# Altium schematic symbol library Crys_CTS_ATS16B_eec.SchLib: 1 symbol
Pins are listed as number, name and electrical type; pins without a type are passive.

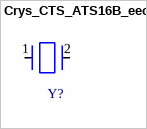
[diagram p0: symbol Crys_CTS_ATS16B_eec]

## Crys_CTS_ATS16B_eec
designator Y?
CRYSTAL 16.0000MHZ 18PF T/H; Part Number: ATS16B; Manufacturer: CTS; Resistance: 40Ω; Capacitance: 18.0pF; Value: 18.0pF; Frequency Tolerance: ±30ppm; Frequency Stability: ±50ppm; Frequency: 16MHz; helpURL: https://upverter.com/upn/revision/339e0baabf11f92b/; ComponentLink2Description: Datasheet; Temperature: -20°C to +70°C; Package: PTH_XTAL_10MM85_4MM5; Supplier 2: Mouser; Price: 0.245333334185; Supplier 1: Digi-Key; ComponentLink1URL: https://upverter.com/upn/revision/339e0baabf11f92b/; Supplier Part Number 2: 774-ATS16B; Supplier Part Number 1: CTX1085-ND; ComponentLink1Description: Upverter; ComponentLink2URL: https://upverter.com/datasheet/1e3504e19249f7256f0c1479324b6da4eb869fd1.pdf; RoHS: TRUE; Mouser Part Number: 774-ATS16B; Ipc Land Pattern Name: CAPAD488W65L1085D450; Temperature Range High: +70°C; Temperature Range Low: -20°C; Digikey Part Number: CTX1085-ND; ESR: 40Ω; Lead Free: yes; Digikey Description: CRYSTAL 16.0000MHZ 18PF T/H; Load Capacitance: 18pF
footprint CTS_ATS16B_0
pins: 1, 2